# EAGLE library part PRIMUSHEADER (library myLib)
Header for interfacing to primus development board
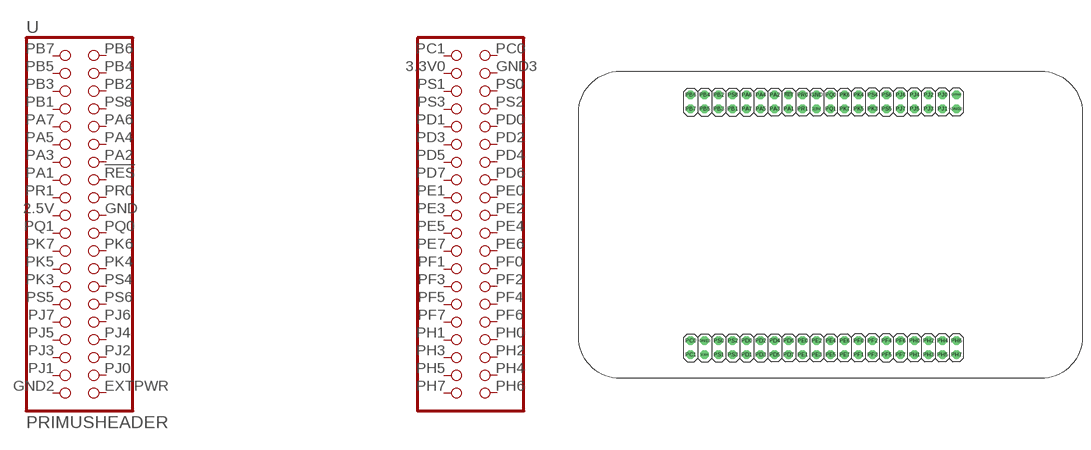
[diagram p16: symbol with the pads of PRIMUSHEADER; footprint PRIMUSHEADER]

Designator prefix -

## PRIMUSHEADER  [PRIMUSHEADER]
2.5V  19  pas
3.3V0  43  pas
!RES  16  pas
EXTPWR  40  pas
GND  20  pas
GND2  39  pas
GND3  44  pas
PA1  15  pas
PA2  14  pas
PA3  13  pas
PA4  12  pas
PA5  11  pas
PA6  10  pas
PA7  9  pas
PB1  7  pas
PB2  6  pas
PB3  5  pas
PB4  4  pas
PB5  3  pas
PB6  2  pas
PB7  1  pas
PC0  42  pas
PC1  41  pas
PD0  50  pas
PD1  49  pas
PD2  52  pas
PD3  51  pas
PD4  54  pas
PD5  53  pas
PD6  56  pas
PD7  55  pas
PE0  58  pas
PE1  57  pas
PE2  60  pas
PE3  59  pas
PE4  62  pas
PE5  61  pas
PE6  64  pas
PE7  63  pas
PF0  66  pas
PF1  65  pas
PF2  68  pas
PF3  67  pas
PF4  70  pas
PF5  69  pas
PF6  72  pas
PF7  71  pas
PH0  74  pas
PH1  73  pas
PH2  76  pas
PH3  75  pas
PH4  78  pas
PH5  77  pas
PH6  80  pas
PH7  79  pas
PJ0  38  pas
PJ1  37  pas
PJ2  36  pas
PJ3  35  pas
PJ4  34  pas
PJ5  33  pas
PJ6  32  pas
PJ7  31  pas
PK3  27  pas
PK4  26  pas
PK5  25  pas
PK6  24  pas
PK7  23  pas
PQ0  22  pas
PQ1  21  pas
PR0  18  pas
PR1  17  pas
PS0  46  pas
PS1  45  pas
PS2  48  pas
PS3  47  pas
PS4  28  pas
PS5  29  pas
PS6  30  pas
PS8  8  pas

## Footprint PRIMUSHEADER (pad centres in mm)
drill 1.016 octagon: 2.5V -1.27,21.082; 3.3V0 -21.59,-23.622; !RES -6.35,23.622; EXTPWR 24.13,23.622; GND -1.27,23.622; GND2 24.13,21.082; GND3 -21.59,-21.082; PA1 -6.35,21.082; PA2 -8.89,23.622; PA3 -8.89,21.082; PA4 -11.43,23.622; PA5 -11.43,21.082; PA6 -13.97,23.622; PA7 -13.97,21.082; PB1 -16.51,21.082; PB2 -19.05,23.622; PB3 -19.05,21.082; PB4 -21.59,23.622; PB5 -21.59,21.082; PB6 -24.13,23.622; PB7 -24.13,21.082; PC0 -24.13,-21.082; PC1 -24.13,-23.622; PD0 -13.97,-21.082; PD1 -13.97,-23.622; PD2 -11.43,-21.082; PD3 -11.43,-23.622; PD4 -8.89,-21.082; PD5 -8.89,-23.622; PD6 -6.35,-21.082; PD7 -6.35,-23.622; PE0 -3.81,-21.082; PE1 -3.81,-23.622; PE2 -1.27,-21.082; PE3 -1.27,-23.622; PE4 1.27,-21.082; PE5 1.27,-23.622; PE6 3.81,-21.082; PE7 3.81,-23.622; PF0 6.35,-21.082; PF1 6.35,-23.622; PF2 8.89,-21.082; PF3 8.89,-23.622; PF4 11.43,-21.082; PF5 11.43,-23.622; PF6 13.97,-21.082; PF7 13.97,-23.622; PH0 16.51,-21.082; PH1 16.51,-23.622; PH2 19.05,-21.082; PH3 19.05,-23.622; PH4 21.59,-21.082; PH5 21.59,-23.622; PH6 24.13,-21.082; PH7 24.13,-23.622; PJ0 21.59,23.622; PJ1 21.59,21.082; PJ2 19.05,23.622; PJ3 19.05,21.082; PJ4 16.51,23.622; PJ5 16.51,21.082; PJ6 13.97,23.622; PJ7 13.97,21.082; PK3 8.89,21.082; PK4 6.35,23.622; PK5 6.35,21.082; PK6 3.81,23.622; PK7 3.81,21.082; PQ0 1.27,23.622; PQ1 1.27,21.082; PR0 -3.81,23.622; PR1 -3.81,21.082; PS0 -19.05,-21.082; PS1 -19.05,-23.622; PS2 -16.51,-21.082; PS3 -16.51,-23.622; PS4 8.89,23.622; PS5 11.43,21.082; PS6 11.43,23.622; PS8 -16.51,23.622